# EAGLE library part LMZM23600V3SILT (library ICs)
36-V, 0.5-A Step-Down DC/DC Power Module in 3.8-mm × 3-mm Package
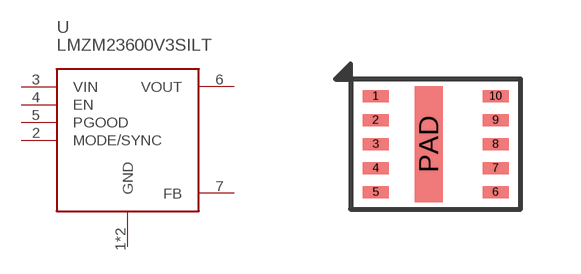
[diagram p230: symbol with the pads of TI_MICROSIP_10; footprint TI_MICROSIP_10]

Designator prefix U

## LMZM23600V3SILT (DIGIKEY: 296-49458-1-ND; HEIGHT: 1.6; PRICE_PER: 4.24; VALUE: 3.3V BUCK)  [TI_MICROSIP_10]
1  GND
2  MODE/SYNC
3  VIN
4  EN
5  PGOOD
6  VOUT
7  FB
PAD  GND

## Footprint TI_MICROSIP_10 (pad centres in mm)
smd 0.65 x 0.3: 1 -1.5,1.2; 2 -1.5,0.6; 3 -1.5,0; 4 -1.5,-0.6; 5 -1.5,-1.2; 6 1.5,-1.2; 7 1.5,-0.6; 8 1.5,0; 9 1.5,0.6; 10 1.5,1.2
smd 0.7 x 2.9: PAD -0.175,0